# EAGLE library part LSM330DLC (library BoneCapeParts)
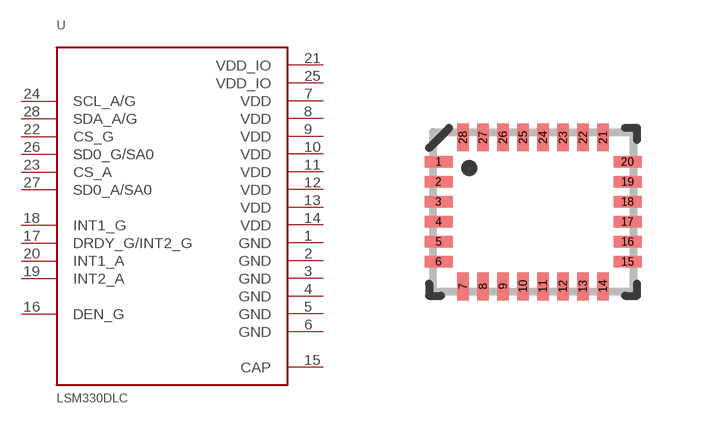
[diagram p5: symbol with the pads of LGA28-4X5; footprint LGA28-4X5]

Designator prefix -

## LSM330DLC  [LGA28-4X5]
1  GND  sup
2  GND  sup
3  GND  sup
4  GND  sup
5  GND  sup
6  GND  sup
7  VDD  sup
8  VDD  sup
9  VDD  sup
10  VDD  sup
11  VDD  sup
12  VDD  sup
13  VDD  sup
14  VDD  sup
15  CAP  pas
16  DEN_G  in
17  DRDY_G/INT2_G  out
18  INT1_G  out
19  INT2_A  out
20  INT1_A  out
21  VDD_IO  sup
22  CS_G  in
23  CS_A  in
24  SCL_A/G  oc
25  VDD_IO  sup
26  SD0_G/SA0
27  SD0_A/SA0
28  SDA_A/G  oc

## Footprint LGA28-4X5 (pad centres in mm)
smd 0.7 x 0.29: 1 -2.362,1.25; 2 -2.362,0.75; 3 -2.362,0.25; 4 -2.362,-0.25; 5 -2.362,-0.75; 6 -2.362,-1.25; 15 2.362,-1.25; 16 2.362,-0.75; 17 2.362,-0.25; 18 2.362,0.25; 19 2.362,0.75; 20 2.362,1.25
smd 0.29 x 0.7: 7 -1.75,-1.863; 8 -1.25,-1.863; 9 -0.75,-1.863; 10 -0.25,-1.863; 11 0.25,-1.863; 12 0.75,-1.863; 13 1.25,-1.863; 14 1.75,-1.863; 21 1.75,1.863; 22 1.25,1.863; 23 0.75,1.863; 24 0.25,1.863; 25 -0.25,1.863; 26 -0.75,1.863; 27 -1.25,1.863; 28 -1.75,1.863